# EAGLE library part AD8479 (library BQ25504)
a very high common mode input opamp
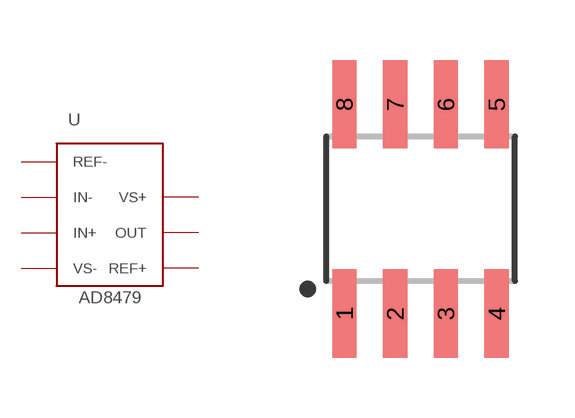
[diagram p59: symbol with the pads of SOIC-8; footprint SOIC-8]

Designator prefix -

## AD8479 (DIGIKEY: AD8479ARZ-ND)  [SOIC-8]
1  REF-
2  IN-
3  IN+
4  VS-
5  REF+
6  OUT
7  VS+

## Footprint SOIC-8 (pad centres in mm)
smd 0.61 x 2.21: 1 -1.905,-2.616; 2 -0.635,-2.616; 3 0.635,-2.616; 4 1.905,-2.616; 5 1.905,2.616; 6 0.635,2.616; 7 -0.635,2.616; 8 -1.905,2.616